# EAGLE library part I2CMUXDEV (library MouseLib)
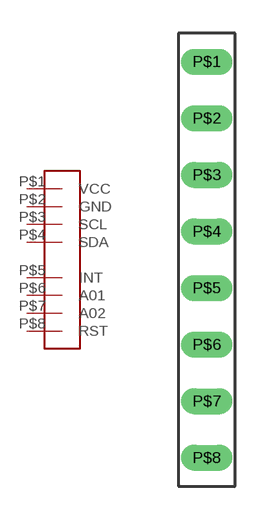
[diagram p14: symbol with the pads of 8PINS; footprint 8PINS]

Designator prefix -

## I2CMUXDEV  [8PINS]
P$1  VCC
P$2  GND
P$3  SCL
P$4  SDA
P$5  INT
P$6  A01
P$7  A02
P$8  RST

## Footprint 8PINS (pad centres in mm)
drill 0.65 long: P$1 0,8.89; P$2 0,6.35; P$3 0,3.81; P$4 0,1.27; P$5 0,-1.27; P$6 0,-3.81; P$7 0,-6.35; P$8 0,-8.89